# EAGLE library part DSPIC33EP512MU810 (library ZMPLC)
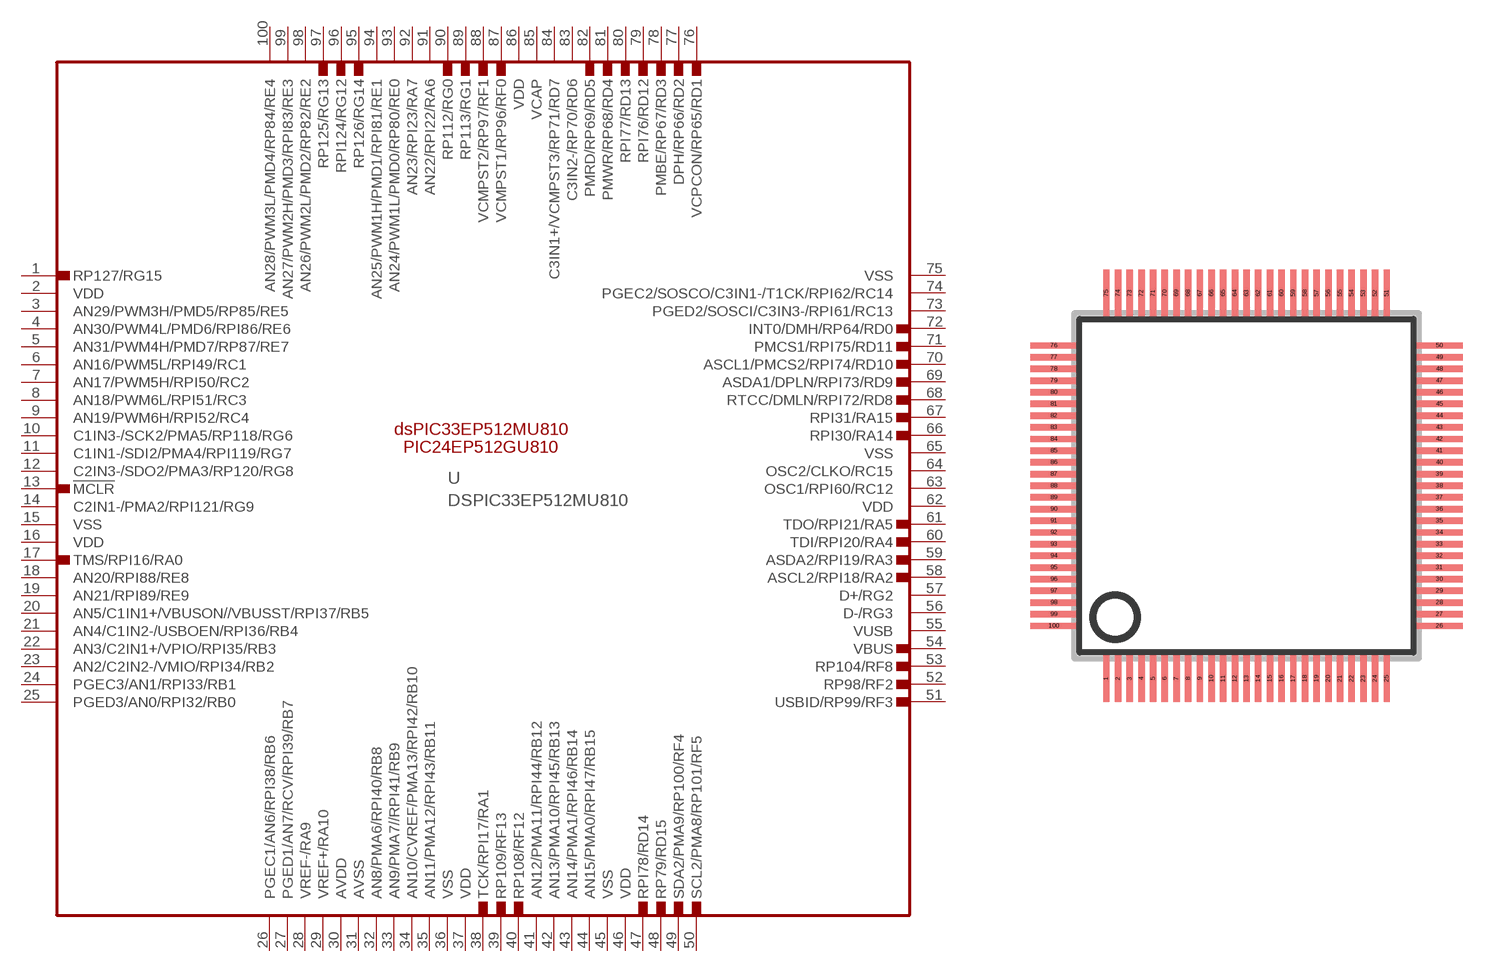
[diagram p0: symbol with the pads of TQFP100; footprint TQFP100]

Designator prefix -

## DSPIC33EP512MU810  [TQFP100]
1  RP127/RG15
2  VDD  pwr
3  AN29/PWM3H/PMD5/RP85/RE5
4  AN30/PWM4L/PMD6/RPI86/RE6
5  AN31/PWM4H/PMD7/RP87/RE7
6  AN16/PWM5L/RPI49/RC1
7  AN17/PWM5H/RPI50/RC2
8  AN18/PWM6L/RPI51/RC3
9  AN19/PWM6H/RPI52/RC4
10  C1IN3-/SCK2/PMA5/RP118/RG6
11  C1IN1-/SDI2/PMA4/RPI119/RG7
12  C2IN3-/SDO2/PMA3/RP120/RG8
13  !MCLR
14  C2IN1-/PMA2/RPI121/RG9
15  VSS  pwr
16  VDD  pwr
17  TMS/RPI16/RA0  in
18  AN20/RPI88/RE8
19  AN21/RPI89/RE9
20  AN5/C1IN1+/VBUSON//VBUSST/RPI37/RB5
21  AN4/C1IN2-/USBOEN/RPI36/RB4
22  AN3/C2IN1+/VPIO/RPI35/RB3
23  AN2/C2IN2-/VMIO/RPI34/RB2
24  PGEC3/AN1/RPI33/RB1
25  PGED3/AN0/RPI32/RB0
26  PGEC1/AN6/RPI38/RB6
27  PGED1/AN7/RCV/RPI39/RB7
28  VREF-/RA9
29  VREF+/RA10
30  AVDD  pwr
31  AVSS  pwr
32  AN8/PMA6/RPI40/RB8
33  AN9/PMA7//RPI41/RB9
34  AN10/CVREF/PMA13/RPI42/RB10
35  AN11/PMA12/RPI43/RB11
36  VSS  pwr
37  VDD  pwr
38  TCK/RPI17/RA1  in
39  RP109/RF13
40  RP108/RF12
41  AN12/PMA11/RPI44/RB12
42  AN13/PMA10/RPI45/RB13
43  AN14/PMA1/RPI46/RB14
44  AN15/PMA0/RPI47/RB15
45  VSS  pwr
46  VDD  pwr
47  RPI78/RD14
48  RP79/RD15
49  SDA2/PMA9/RP100/RF4
50  SCL2/PMA8/RP101/RF5
51  USBID/RP99/RF3
52  RP98/RF2
53  RP104/RF8
54  VBUS  pas
55  VUSB  pas
56  D-/RG3
57  D+/RG2
58  ASCL2/RPI18/RA2
59  ASDA2/RPI19/RA3
60  TDI/RPI20/RA4  in
61  TDO/RPI21/RA5  out
62  VDD  pwr
63  OSC1/RPI60/RC12
64  OSC2/CLKO/RC15
65  VSS  pwr
66  RPI30/RA14
67  RPI31/RA15
68  RTCC/DMLN/RPI72/RD8
69  ASDA1/DPLN/RPI73/RD9
70  ASCL1/PMCS2/RPI74/RD10
71  PMCS1/RPI75/RD11
72  INT0/DMH/RP64/RD0
73  PGED2/SOSCI/C3IN3-/RPI61/RC13
74  PGEC2/SOSCO/C3IN1-/T1CK/RPI62/RC14
75  VSS  pwr
76  VCPCON/RP65/RD1
77  DPH/RP66/RD2
78  PMBE/RP67/RD3
79  RPI76/RD12
80  RPI77/RD13
81  PMWR/RP68/RD4
82  PMRD/RP69/RD5
83  C3IN2-/RP70/RD6
84  C3IN1+/VCMPST3/RP71/RD7
85  VCAP  pwr
86  VDD  pwr
87  VCMPST1/RP96/RF0
88  VCMPST2/RP97/RF1
89  RP113/RG1
90  RP112/RG0
91  AN22/RPI22/RA6
92  AN23/RPI23/RA7
93  AN24/PWM1L/PMD0/RP80/RE0
94  AN25/PWM1H/PMD1/RPI81/RE1
95  RP126/RG14
96  RPI124/RG12
97  RP125/RG13
98  AN26/PWM2L/PMD2/RP82/RE2
99  AN27/PWM2H/PMD3/RPI83/RE3
100  AN28/PWM3L/PMD4/RP84/RE4

## Footprint TQFP100 (pad centres in mm)
TQFP 100 12x12mm checked against microchip package specifications,
smd 0.22 x 1.6: 1 -4.8,-6.6; 2 -4.4,-6.6; 3 -4,-6.6; 4 -3.6,-6.6; 5 -3.2,-6.6; 6 -2.8,-6.6; 7 -2.4,-6.6; 8 -2,-6.6; 9 -1.6,-6.6; 10 -1.2,-6.6; 11 -0.8,-6.6; 12 -0.4,-6.6; 13 0,-6.6; 14 0.4,-6.6; 15 0.8,-6.6; 16 1.2,-6.6; 17 1.6,-6.6; 18 2,-6.6; 19 2.4,-6.6; 20 2.8,-6.6; 21 3.2,-6.6; 22 3.6,-6.6; 23 4,-6.6; 24 4.4,-6.6; 25 4.8,-6.6; 51 4.8,6.6; 52 4.4,6.6; 53 4,6.6; 54 3.6,6.6; 55 3.2,6.6; 56 2.8,6.6; 57 2.4,6.6; 58 2,6.6; 59 1.6,6.6; 60 1.2,6.6; 61 0.8,6.6; 62 0.4,6.6; 63 0,6.6; 64 -0.4,6.6; 65 -0.8,6.6; 66 -1.2,6.6; 67 -1.6,6.6; 68 -2,6.6; 69 -2.4,6.6; 70 -2.8,6.6; 71 -3.2,6.6; 72 -3.6,6.6; 73 -4,6.6; 74 -4.4,6.6; 75 -4.8,6.6
smd 1.6 x 0.22: 26 6.6,-4.8; 27 6.6,-4.4; 28 6.6,-4; 29 6.6,-3.6; 30 6.6,-3.2; 31 6.6,-2.8; 32 6.6,-2.4; 33 6.6,-2; 34 6.6,-1.6; 35 6.6,-1.2; 36 6.6,-0.8; 37 6.6,-0.4; 38 6.6,0; 39 6.6,0.4; 40 6.6,0.8; 41 6.6,1.2; 42 6.6,1.6; 43 6.6,2; 44 6.6,2.4; 45 6.6,2.8; 46 6.6,3.2; 47 6.6,3.6; 48 6.6,4; 49 6.6,4.4; 50 6.6,4.8; 76 -6.6,4.8; 77 -6.6,4.4; 78 -6.6,4; 79 -6.6,3.6; 80 -6.6,3.2; 81 -6.6,2.8; 82 -6.6,2.4; 83 -6.6,2; 84 -6.6,1.6; 85 -6.6,1.2; 86 -6.6,0.8; 87 -6.6,0.4; 88 -6.6,0; 89 -6.6,-0.4; 90 -6.6,-0.8; 91 -6.6,-1.2; 92 -6.6,-1.6; 93 -6.6,-2; 94 -6.6,-2.4; 95 -6.6,-2.8; 96 -6.6,-3.2; 97 -6.6,-3.6; 98 -6.6,-4; 99 -6.6,-4.4; 100 -6.6,-4.8